# Altium footprint library 2021-03-26_16-16-03.PcbLib: 3 footprints
Each footprint in its own frame and in the unit in brackets; x right, y up, seen from the top. Pads: shape width x height; smd on the part's side, far side on the other; paste and mask are expansions set on the pad; w line width, h text height; cw(c..) or ccw(c..) is an arc to the next point about the centre after c.
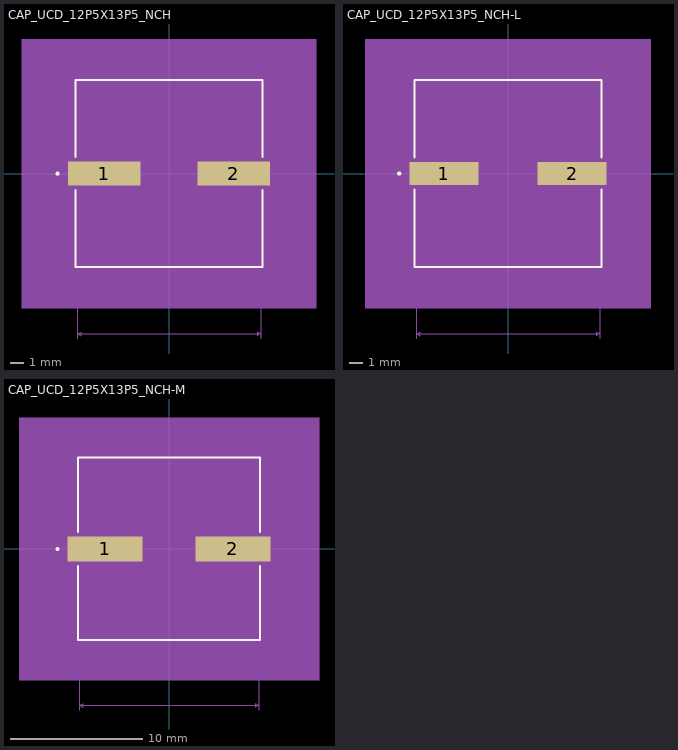
[diagram p0: the footprints below, top view; thin cyan lines are the x and y axes]

## CAP_UCD_12P5X13P5_NCH [mm]
pads (2):
  rect 5.404x1.797 smd paste+0 mask+0: 1(-4.796,0) 2(4.796,0)
Top Overlay:
  circle w0.152: c-8.26,0 r0.076
  lines w0.152: -6.921,-1.231 -6.921,-6.921 6.921,-6.921 6.921,-1.231 ; -6.921,1.231 -6.921,6.921 6.921,6.921 6.921,1.231
Mechanical 5:
  region: 10.927,-9.97 -10.927,-9.97 -10.927,9.97 10.927,9.97
Mechanical 7:
  lines w0.025: -9.716,-6.794 -6.794,-6.794 -6.794,-12.255 ; -9.716,6.794 -6.794,6.794 ; -6.998,-9.716 -6.998,-1.152 ; -6.998,1.152 -6.998,9.716 ; -1.994,-9.716 -1.994,-0.644 ; 6.794,-12.255 6.794,-6.794 ; 6.998,1.152 6.998,9.716 ; 7.752,-0.699 10.419,-0.699 ; 7.752,0.699 10.419,0.699 ; 10.038,-1.968 10.038,-0.699 ; 10.038,1.968 10.038,0.699 ; -9.335,-6.794 -9.335,6.794 ; -9.335,-6.794 -9.461,-6.54 -9.207,-6.54 -9.335,-6.794 ; -9.335,6.794 -9.461,6.54 -9.207,6.54 -9.335,6.794 ; -6.998,-9.335 -1.994,-9.335 ; -6.998,-9.335 -6.744,-9.207 -6.744,-9.461 -6.998,-9.335 ; -6.998,9.335 6.998,9.335 ; -6.998,9.335 -6.744,9.461 -6.744,9.207 -6.998,9.335 ; -6.794,-11.874 6.794,-11.874 ; -6.794,-11.874 -6.54,-11.747 -6.54,-12.002 -6.794,-11.874 ; -1.994,-9.335 -2.248,-9.207 -2.248,-9.461 -1.994,-9.335 ; 6.794,-11.874 6.54,-11.747 6.54,-12.002 6.794,-11.874 ; 6.998,9.335 6.744,9.461 6.744,9.207 6.998,9.335 ; 10.038,-0.699 9.911,-0.953 10.165,-0.953 10.038,-0.699 ; 10.038,0.699 9.911,0.953 10.165,0.953 10.038,0.699
  text "Default Padstyle: r540_180" at -8.255,-11.167 h1.27
  text "Alternate 1 Padstyle: b152_229h76" at -10.477,-13.707 h1.27
  text "Alternate 2 Padstyle: b229_152h76" at -10.477,-16.247 h1.27
  text "0.055in/1.397mm" at 10.546,-0.318 h0.64
  text "0.551in/13.995mm" at -2.54,9.842 h0.64
  text "0.535in/13.589mm" at -14.922,-0.318 h0.64
  text "0.197in/5.004mm" at -6.877,-10.477 h0.64
  text "0.535in/13.589mm" at -2.54,-13.018 h0.64
Mechanical 13:
  circle w0: c-6.286,0 r0.076
  lines w0.025: -6.794,-3.397 -3.397,-6.794 ; -6.794,3.397 -3.397,6.794 ; -6.794,-6.794 6.794,-6.794 6.794,6.794 -6.794,6.794 -6.794,-6.794
Mechanical 15:
  region: -7.048,-1.152 -7.752,-1.152 -7.752,1.152 -7.048,1.152 -7.048,7.048 7.048,7.048 7.048,1.152 7.752,1.152 7.752,-1.152 7.048,-1.152 7.048,-7.048 -7.048,-7.048
  lines w0.152: -7.752,-1.152 -7.752,1.152 -7.048,1.152 -7.048,7.048 7.048,7.048 7.048,1.152 7.752,1.152 7.752,-1.152 7.048,-1.152 7.048,-7.048 -7.048,-7.048 -7.048,-1.152 -7.752,-1.152
3D body: height 0.25, standoff 0, extent 0,0 0.254,0.254

## CAP_UCD_12P5X13P5_NCH-L [mm]
pads (2):
  rect 5.104x1.697 smd paste+0 mask+0: 1(-4.746,0) 2(4.746,0)
Top Overlay:
  circle w0.152: c-8.06,0 r0.076
  lines w0.152: -6.921,-1.181 -6.921,-6.921 6.921,-6.921 6.921,-1.181 ; -6.921,1.181 -6.921,6.921 6.921,6.921 6.921,1.181
Mechanical 5:
  region: 10.574,-9.97 -10.574,-9.97 -10.574,9.97 10.574,9.97
Mechanical 7:
  lines w0.025: -9.716,-6.794 -6.794,-6.794 -6.794,-12.255 ; -9.716,6.794 -6.794,6.794 ; -6.998,-9.716 -6.998,-1.102 ; -6.998,1.102 -6.998,9.716 ; -1.994,-9.716 -1.994,-0.594 ; 6.794,-12.255 6.794,-6.794 ; 6.998,1.102 6.998,9.716 ; 7.552,-0.699 10.219,-0.699 ; 7.552,0.699 10.219,0.699 ; 9.838,-1.968 9.838,-0.699 ; 9.838,1.968 9.838,0.699 ; -9.335,-6.794 -9.335,6.794 ; -9.335,-6.794 -9.461,-6.54 -9.207,-6.54 -9.335,-6.794 ; -9.335,6.794 -9.461,6.54 -9.207,6.54 -9.335,6.794 ; -6.998,-9.335 -1.994,-9.335 ; -6.998,-9.335 -6.744,-9.207 -6.744,-9.461 -6.998,-9.335 ; -6.998,9.335 6.998,9.335 ; -6.998,9.335 -6.744,9.461 -6.744,9.207 -6.998,9.335 ; -6.794,-11.874 6.794,-11.874 ; -6.794,-11.874 -6.54,-11.747 -6.54,-12.002 -6.794,-11.874 ; -1.994,-9.335 -2.248,-9.207 -2.248,-9.461 -1.994,-9.335 ; 6.794,-11.874 6.54,-11.747 6.54,-12.002 6.794,-11.874 ; 6.998,9.335 6.744,9.461 6.744,9.207 6.998,9.335 ; 9.838,-0.699 9.711,-0.953 9.965,-0.953 9.838,-0.699 ; 9.838,0.699 9.711,0.953 9.965,0.953 9.838,0.699
  text "Default Padstyle: r510_170" at -8.255,-11.217 h1.27
  text "Alternate 1 Padstyle: b152_229h76" at -10.477,-13.757 h1.27
  text "Alternate 2 Padstyle: b229_152h76" at -10.477,-16.297 h1.27
  text "0.055in/1.397mm" at 10.346,-0.318 h0.64
  text "0.551in/13.995mm" at -2.54,9.842 h0.64
  text "0.535in/13.589mm" at -14.922,-0.318 h0.64
  text "0.197in/5.004mm" at -6.877,-10.477 h0.64
  text "0.535in/13.589mm" at -2.54,-13.018 h0.64
Mechanical 13:
  circle w0: c-6.286,0 r0.076
  lines w0.025: -6.794,-3.397 -3.397,-6.794 ; -6.794,3.397 -3.397,6.794 ; -6.794,-6.794 6.794,-6.794 6.794,6.794 -6.794,6.794 -6.794,-6.794
Mechanical 15:
  region: -6.896,-0.95 -7.399,-0.95 -7.399,0.95 -6.896,0.95 -6.896,6.896 6.896,6.896 6.896,0.95 7.399,0.95 7.399,-0.95 6.896,-0.95 6.896,-6.896 -6.896,-6.896
  lines w0.152: -7.399,-0.95 -7.399,0.95 -6.896,0.95 -6.896,6.896 6.896,6.896 6.896,0.95 7.399,0.95 7.399,-0.95 6.896,-0.95 6.896,-6.896 -6.896,-6.896 -6.896,-0.95 -7.399,-0.95
3D body: height 0.25, standoff 0, extent 0,0 0.254,0.254

## CAP_UCD_12P5X13P5_NCH-M [mm]
pads (2):
  rect 5.704x1.897 smd paste+0 mask+0: 1(-4.846,0) 2(4.846,0)
Top Overlay:
  circle w0.152: c-8.46,0 r0.076
  lines w0.152: -6.921,-1.281 -6.921,-6.921 6.921,-6.921 6.921,-1.281 ; -6.921,1.281 -6.921,6.921 6.921,6.921 6.921,1.281
Mechanical 5:
  region: 11.381,-9.97 -11.381,-9.97 -11.381,9.97 11.381,9.97
Mechanical 7:
  lines w0.025: -9.716,-6.794 -6.794,-6.794 -6.794,-12.255 ; -9.716,6.794 -6.794,6.794 ; -6.998,-9.716 -6.998,-1.202 ; -6.998,1.202 -6.998,9.716 ; -1.994,-9.716 -1.994,-0.694 ; 6.794,-12.255 6.794,-6.794 ; 6.998,1.202 6.998,9.716 ; 7.952,-0.699 10.619,-0.699 ; 7.952,0.699 10.619,0.699 ; 10.238,-1.968 10.238,-0.699 ; 10.238,1.968 10.238,0.699 ; -9.335,-6.794 -9.335,6.794 ; -9.335,-6.794 -9.461,-6.54 -9.207,-6.54 -9.335,-6.794 ; -9.335,6.794 -9.461,6.54 -9.207,6.54 -9.335,6.794 ; -6.998,-9.335 -1.994,-9.335 ; -6.998,-9.335 -6.744,-9.207 -6.744,-9.461 -6.998,-9.335 ; -6.998,9.335 6.998,9.335 ; -6.998,9.335 -6.744,9.461 -6.744,9.207 -6.998,9.335 ; -6.794,-11.874 6.794,-11.874 ; -6.794,-11.874 -6.54,-11.747 -6.54,-12.002 -6.794,-11.874 ; -1.994,-9.335 -2.248,-9.207 -2.248,-9.461 -1.994,-9.335 ; 6.794,-11.874 6.54,-11.747 6.54,-12.002 6.794,-11.874 ; 6.998,9.335 6.744,9.461 6.744,9.207 6.998,9.335 ; 10.238,-0.699 10.111,-0.953 10.365,-0.953 10.238,-0.699 ; 10.238,0.699 10.111,0.953 10.365,0.953 10.238,0.699
  text "Default Padstyle: r570_190" at -8.255,-11.117 h1.27
  text "Alternate 1 Padstyle: b152_229h76" at -10.477,-13.657 h1.27
  text "Alternate 2 Padstyle: b229_152h76" at -10.477,-16.197 h1.27
  text "0.055in/1.397mm" at 10.746,-0.318 h0.64
  text "0.551in/13.995mm" at -2.54,9.842 h0.64
  text "0.535in/13.589mm" at -14.922,-0.318 h0.64
  text "0.197in/5.004mm" at -6.877,-10.477 h0.64
  text "0.535in/13.589mm" at -2.54,-13.018 h0.64
Mechanical 13:
  circle w0: c-6.286,0 r0.076
  lines w0.025: -6.794,-3.397 -3.397,-6.794 ; -6.794,3.397 -3.397,6.794 ; -6.794,-6.794 6.794,-6.794 6.794,6.794 -6.794,6.794 -6.794,-6.794
Mechanical 15:
  region: -7.302,-1.456 -8.206,-1.456 -8.206,1.456 -7.302,1.456 -7.302,7.302 7.302,7.302 7.302,1.456 8.206,1.456 8.206,-1.456 7.302,-1.456 7.302,-7.302 -7.302,-7.302
  lines w0.152: -8.206,-1.456 -8.206,1.456 -7.302,1.456 -7.302,7.302 7.302,7.302 7.302,1.456 8.206,1.456 8.206,-1.456 7.302,-1.456 7.302,-7.302 -7.302,-7.302 -7.302,-1.456 -8.206,-1.456
3D body: height 0.25, standoff 0, extent 0,0 0.254,0.254